# Altium footprint library SMDComponents.PcbLib: 7 footprints
Each footprint in its own frame and in the unit in brackets; x right, y up, seen from the top. Pads: shape width x height; smd on the part's side, far side on the other; paste and mask are expansions set on the pad; w line width, h text height; cw(c..) or ccw(c..) is an arc to the next point about the centre after c.
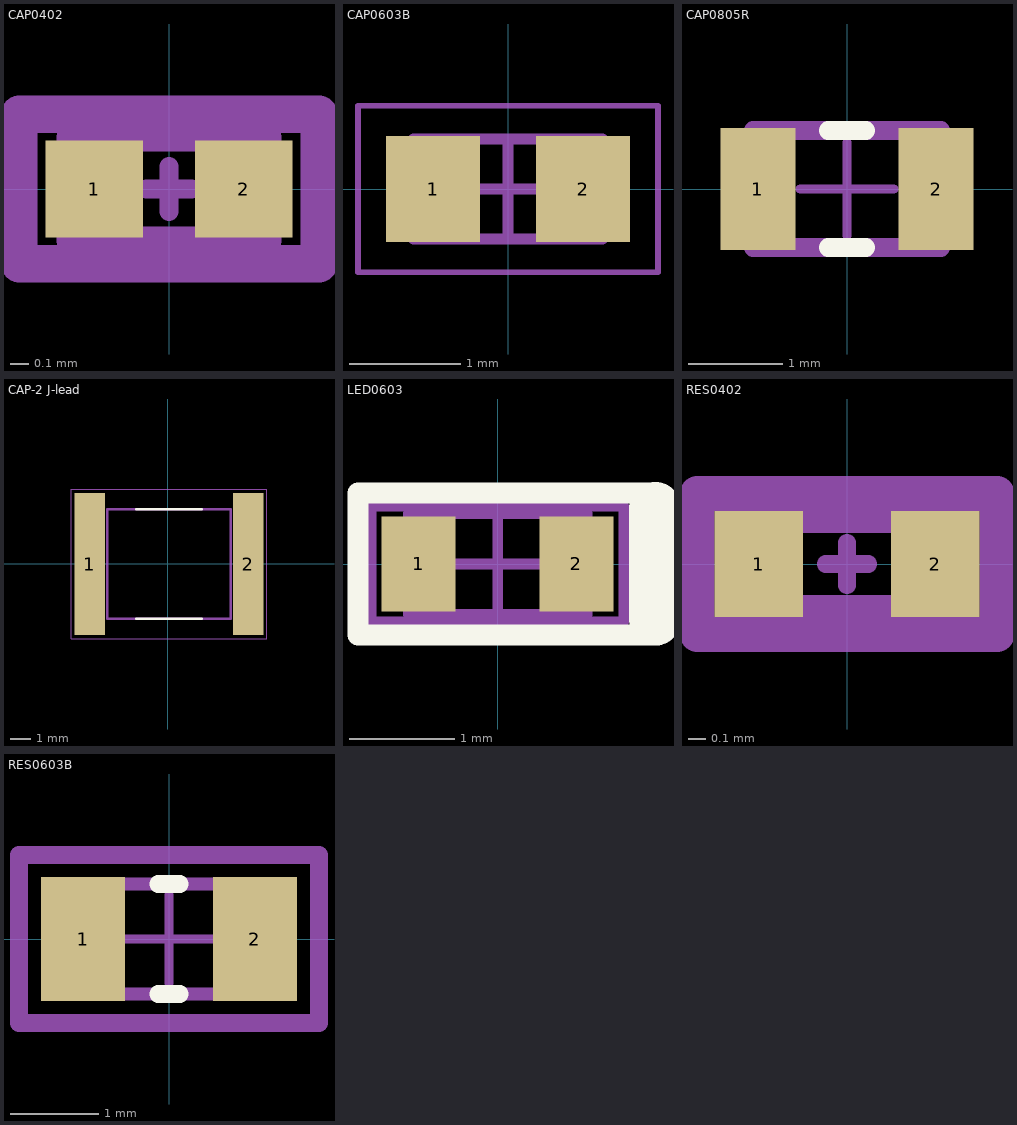
[diagram p0: the footprints below, top view; thin cyan lines are the x and y axes]

## CAP0402 [mm]
pads (2):
  rect 0.52x0.52 smd paste+0 mask+0: 1(-0.4,0) 2(0.4,0)
Mechanical 10:
  lines w0.2: -0.8,-0.4 0.8,-0.4 0.8,0.4 -0.8,0.4 -0.8,-0.4
Mechanical 12:
  lines w0.15: -0.525,-0.275 0.525,-0.275 0.525,0.275 -0.525,0.275 -0.525,-0.275
Mechanical 15:
  lines w0.1: -0.12,0 0.12,0 ; 0,-0.12 0,0.12
  lines w0.2: -0.8,-0.4 0.8,-0.4 0.8,0.4 -0.8,0.4 -0.8,-0.4
3D body "Cap_Kemet_C0402C100C5GACTU_eec.STEP": height 0.25, standoff 0, extent -0.8,-0.4 0.8,0.4

## CAP0603B [mm] "Chip Capacitor, 2-Leads, Body 1.7x0.9mm, IPC Medium Density"
height 0.9
pads (2):
  rect 0.85x0.95 smd: 1(-0.675,0) 2(0.675,0)
Mechanical 13:
  lines w0.1: -0.85,-0.45 -0.85,0.45 0.85,0.45 0.85,-0.45 -0.85,-0.45
Mechanical 15:
  lines w0.05: -1.35,-0.75 -1.35,0.75 1.35,0.75 1.35,-0.75 -1.35,-0.75
  lines w0.1: -0.45,0 0.45,0 ; 0,-0.45 0,0.45
3D body "CAPC1608X09N.step": height 0.9, standoff 0, extent -0.85,-0.45 0.85,0.45

## CAP0805R [mm] "capacitor 0805 reflow soldering"
pads (2):
  rect 0.8x1.3 smd mask+0: 1(-0.95,0) 2(0.95,0)
Top Overlay:
  lines w0.2: -0.2,-0.625 0.2,-0.625 ; -0.2,0.625 0.2,0.625
Mechanical 13:
  lines w0.2: -1,-0.625 1,-0.625 1,0.625 -1,0.625 -1,-0.625
Mechanical 15:
  lines w0.1: -0.5,0 0.5,0 ; 0,-0.5 0,0.5
3D body "CAP0805.stp": height 0.78, standoff 0, extent -1,-0.625 1,0.625

## CAP-2 J-lead [mm] "KTJ500B476M76BFT00, 6.60mm x 7.80mm, Ceramic Capacitor X7R Stacked SMD, 2 J-Lead"
height 8.5
pads (2):
  rect 1.5x7 smd: 1(-3.829,-0.009) 2(3.971,-0.009)
Top Overlay:
  lines w0.127: -1.539,-2.709 1.681,-2.709 ; -1.539,2.691 1.681,2.691
Mechanical 13:
  lines w0.127: -2.979,-2.709 -2.979,2.691 ; -2.979,-2.709 3.121,-2.709 ; -2.979,-2.709 -2.979,2.691 ; -2.979,-2.709 3.121,-2.709 ; -2.979,2.691 3.121,2.691 ; -2.979,2.691 3.121,2.691 ; 3.121,-2.709 3.121,2.691 ; 3.121,-2.709 3.121,2.691
Mechanical 15:
  lines w0.05: -4.755,-3.692 -4.755,3.674 4.897,3.674 4.897,-3.692 -4.755,-3.692
3D body: height 0.12, standoff -21.13, extent 0,0 0,0
3D body: height 8.5, standoff 0, extent -3.862,-3.3 3.963,3.088

## LED0603 [mm] "0603 LED footprint, thick line on the cathode"
height 0.9
pads (2):
  rect 0.7x0.9 smd: 1(-0.75,0) 2(0.75,0)
Top Overlay:
  lines w0.2: 1.524,-0.675 -1.325,-0.675 -1.325,0.675 1.524,0.675
  lines w0.5: 1.499,-0.523 1.499,0.527
Mechanical 13:
  lines w0.1: -0.85,-0.475 -0.85,0.475 0.85,0.475 0.85,-0.475 -0.85,-0.475
Mechanical 15:
  lines w0.1: -0.475,0 0.475,0 ; 0,-0.475 0,0.475 ; -1.2,-0.55 -1.2,0.55 1.2,0.55 1.2,-0.55 -1.2,-0.55
3D body "(0603) LED_DIALIGHT_598.stp": height 0.71, standoff 0, extent -0.8,-0.396 0.8,0.396

## RES0402 [mm]
pads (2):
  rect 0.5x0.6 smd paste+0 mask+0: 1(-0.5,0) 2(0.5,0)
Mechanical 10:
  lines w0.2: -0.85,-0.4 0.85,-0.4 0.85,0.4 -0.85,0.4 -0.85,-0.4
Mechanical 12:
  lines w0.15: -0.5,-0.25 0.5,-0.25 0.5,0.25 -0.5,0.25 -0.5,-0.25
Mechanical 15:
  lines w0.1: -0.12,0 0.12,0 ; 0,-0.12 0,0.12
  lines w0.2: -0.85,-0.4 0.85,-0.4 0.85,0.4 -0.85,0.4 -0.85,-0.4
3D body "3dmodel.step": height 0.25, standoff 0, extent -0.85,-0.4 0.85,0.4

## RES0603B [mm]
pads (2):
  rect 0.957x1.408 smd paste+0 mask+0: 1(-0.976,0) 2(0.976,0)
Top Overlay:
  lines w0.2: -0.123,-0.625 0.123,-0.625 ; -0.123,0.625 0.123,0.625
Mechanical 10:
  lines w0.2: -1.704,-0.954 1.704,-0.954 1.704,0.954 -1.704,0.954 -1.704,-0.954
Mechanical 12:
  lines w0.15: -1,-0.625 1,-0.625 1,0.625 -1,0.625 -1,-0.625
Mechanical 15:
  lines w0.1: -0.5,0 0.5,0 ; 0,-0.5 0,0.5
  lines w0.2: -1.704,-0.954 1.704,-0.954 1.704,0.954 -1.704,0.954 -1.704,-0.954
3D body "Res_Vishay_CRCW080510K0FKEA_eec.STEP": height 0.25, standoff 0, extent -1.704,-0.954 1.704,0.954